# Altium footprint library PCB - LEADLESS - QFN - TI VQFN-14 RHL0014A.PcbLib: 1 footprints
Each footprint in its own frame and in the unit in brackets; x right, y up, seen from the top. Pads: shape width x height; smd on the part's side, far side on the other; paste and mask are expansions set on the pad; w line width, h text height; cw(c..) or ccw(c..) is an arc to the next point about the centre after c.
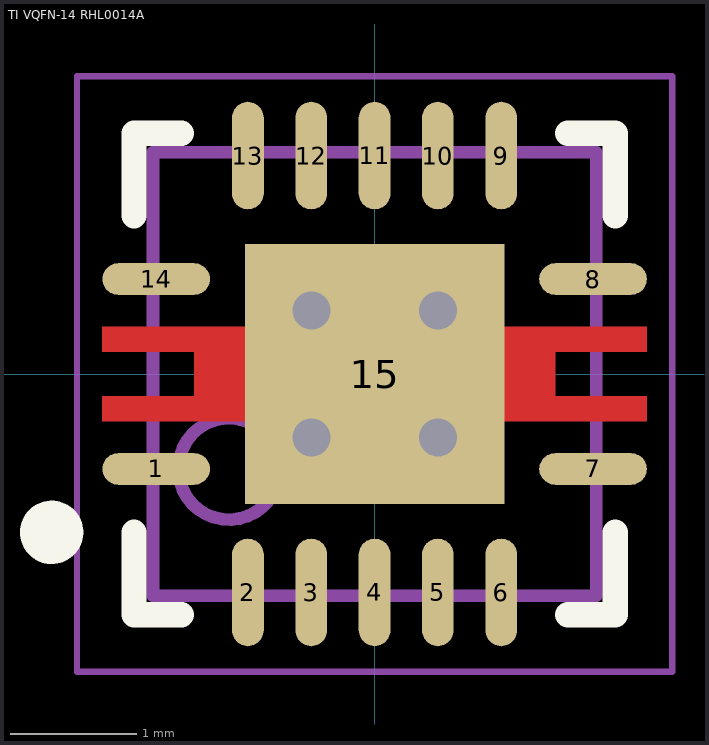
[diagram p0: the footprint, top view; thin cyan lines are the x and y axes]

## TI VQFN-14 RHL0014A [mm] "QFN, 14-Leads, Body 3.50x3.50mm, Pitch 0.50mm, Thermal Pad 2.05x2.05mm, IPC Medium Density"
height 1
pads (15):
  oval 0.85x0.25 smd: 1(-1.725,-0.75) 7(1.725,-0.75) 8(1.725,0.75) 14(-1.725,0.75)
  oval 0.25x0.85 smd: 2(-1,-1.725) 3(-0.5,-1.725) 4(0,-1.725) 5(0.5,-1.725) 6(1,-1.725) 9(1,1.725) 10(0.5,1.725) 11(0,1.725) 12(-0.5,1.725) 13(-1,1.725)
  rect 2.05x2.05 smd: 15(0,0)
via -0.5,-0.5 diameter 0.5 hole 0.3
via -0.5,0.5 diameter 0.5 hole 0.3
via 0.5,-0.5 diameter 0.5 hole 0.3
via 0.5,0.5 diameter 0.5 hole 0.3
Top Layer:
  region: 1,-0.375 1,0.375 2.15,0.375 2.15,0.175 1.425,0.175 1.425,-0.175 2.15,-0.175 2.15,-0.375
  region: -2.15,-0.375 -2.15,-0.175 -1.425,-0.175 -1.425,0.175 -2.15,0.175 -2.15,0.375 -1,0.375 -1,-0.375
Top Overlay:
  circle w0.25: c-2.55,-1.25 r0.125
  lines w0.2: -1.9,-1.25 -1.9,-1.9 -1.525,-1.9 ; -1.9,1.25 -1.9,1.9 -1.525,1.9 ; 1.525,-1.9 1.9,-1.9 1.9,-1.25 ; 1.525,1.9 1.9,1.9 1.9,1.25
Mechanical 13:
  circle w0.1: c-1.15,-0.75 r0.4
  lines w0.1: -1.75,-1.75 1.75,-1.75 1.75,1.75 -1.75,1.75 -1.75,-1.75
Mechanical 15:
  lines w0.05: -2.35,-2.35 2.35,-2.35 2.35,2.35 -2.35,2.35 -2.35,-2.35
  lines w0.1: -0.5,0 0.5,0 ; 0,-0.5 0,0.5
3D body "TI - VQFN-14 - RHL0014A v1.step": height 1, standoff 0, extent -1.75,-1.75 1.75,1.75